# Altium schematic symbol library cui.SchLib: 1 symbol
Pins are listed as number, name and electrical type; pins without a type are passive.

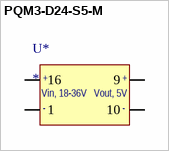
[diagram p0: symbol PQM3-D24-S5-M]

## PQM3-D24-S5-M
designator U*
footprint PQM3-D24-S5-M (CUI Power Supply)
pins: 1, 9, 10, 16
text: +; Vin, 18-36V; Vout, 5V; -